# EAGLE library part 52207-0485 (library Molex_By_element14_Batch_1)
SOCKET FPC, SMT, 1MM, 4 WAY
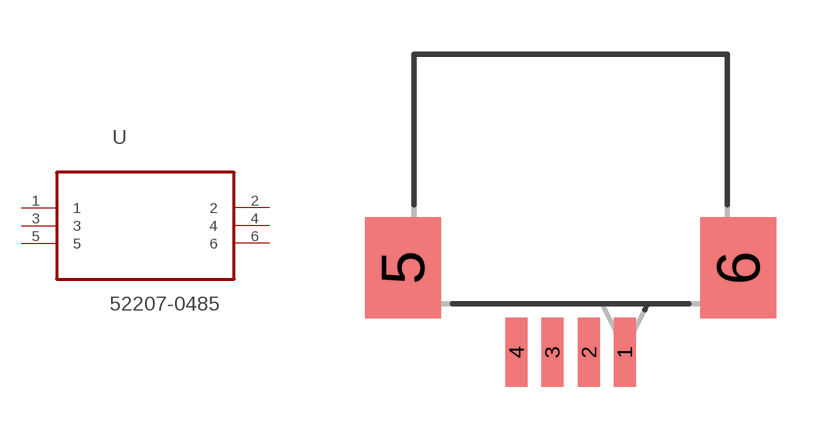
[diagram p0: symbol with the pads of MOLEX_52207-0485; footprint MOLEX_52207-0485]

Designator prefix U

## 52207-0485 (MPN: 52207-0485; OC_FARNELL: 1463013; OC_NEWARK: 58J9499; PACKAGE: SOCKET FPC, SMT, 1MM, 4 WAY; SUPPLIER: Molex)  [MOLEX_52207-0485]
1  1  pas
2  2  pas
3  3  pas
4  4  pas
5  5  pas
6  6  pas

## Footprint MOLEX_52207-0485 (pad centres in mm)
smd 0.61 x 1.905: 1 1.499,4.801; 2 0.508,4.801; 3 -0.508,4.801; 4 -1.499,4.801
smd 2.108 x 2.794: 5 -4.648,7.137; 6 4.648,7.137